# EAGLE library part ICE40HX4K-BG121 (library MotionDetectorCamera)
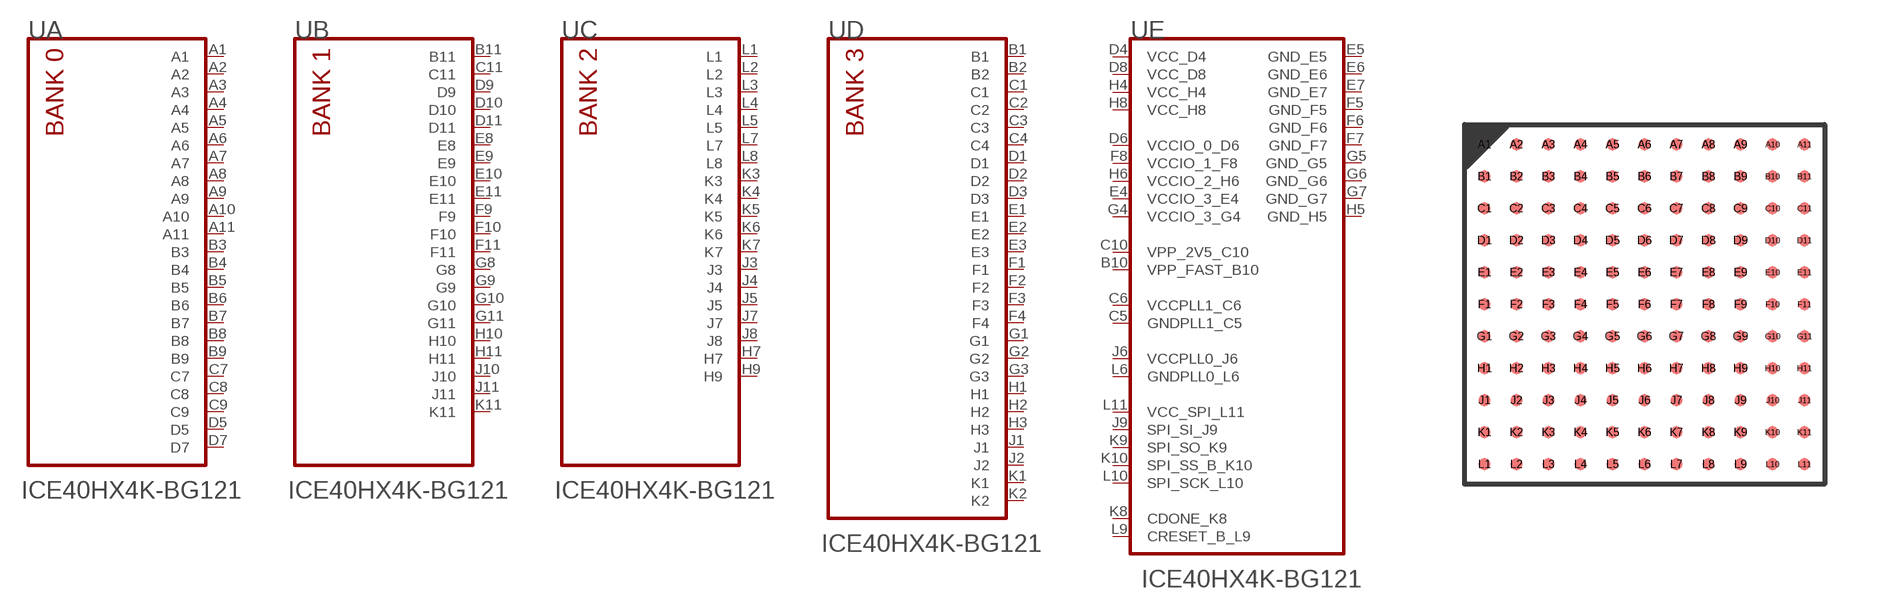
[diagram p4: symbol with the pads of ICE40HX4K-BG121; footprint ICE40HX4K-BG121]

Designator prefix U; gates A=ICE40HX4K-BG121-A B=ICE40HX4K-BG121-B C=ICE40HX4K-BG121-C D=ICE40HX4K-BG121-D E=ICE40HX4K-BG121-E

## ICE40HX4K-BG121 (MFG: Lattice; PN: ICE40HX4K-BG121)  [ICE40HX4K-BG121]
A1  A:A1
A2  A:A2
A3  A:A3
A4  A:A4
A5  A:A5
A6  A:A6
A7  A:A7
A8  A:A8
A9  A:A9
A10  A:A10
A11  A:A11
B1  D:B1
B2  D:B2
B3  A:B3
B4  A:B4
B5  A:B5
B6  A:B6
B7  A:B7
B8  A:B8
B9  A:B9
B10  E:VPP_FAST_B10
B11  B:B11
C1  D:C1
C2  D:C2
C3  D:C3
C4  D:C4
C5  E:GNDPLL1_C5
C6  E:VCCPLL1_C6
C7  A:C7
C8  A:C8
C9  A:C9
C10  E:VPP_2V5_C10
C11  B:C11
D1  D:D1
D2  D:D2
D3  D:D3
D4  E:VCC_D4
D5  A:D5
D6  E:VCCIO_0_D6
D7  A:D7
D8  E:VCC_D8
D9  B:D9
D10  B:D10
D11  B:D11
E1  D:E1
E2  D:E2
E3  D:E3
E4  E:VCCIO_3_E4
E5  E:GND_E5
E6  E:GND_E6
E7  E:GND_E7
E8  B:E8
E9  B:E9
E10  B:E10
E11  B:E11
F1  D:F1
F2  D:F2
F3  D:F3
F4  D:F4
F5  E:GND_F5
F6  E:GND_F6
F7  E:GND_F7
F8  E:VCCIO_1_F8
F9  B:F9
F10  B:F10
F11  B:F11
G1  D:G1
G2  D:G2
G3  D:G3
G4  E:VCCIO_3_G4
G5  E:GND_G5
G6  E:GND_G6
G7  E:GND_G7
G8  B:G8
G9  B:G9
G10  B:G10
G11  B:G11
H1  D:H1
H2  D:H2
H3  D:H3
H4  E:VCC_H4
H5  E:GND_H5
H6  E:VCCIO_2_H6
H7  C:H7
H8  E:VCC_H8
H9  C:H9
H10  B:H10
H11  B:H11
J1  D:J1
J2  D:J2
J3  C:J3
J4  C:J4
J5  C:J5
J6  E:VCCPLL0_J6
J7  C:J7
J8  C:J8
J9  E:SPI_SI_J9
J10  B:J10
J11  B:J11
K1  D:K1
K2  D:K2
K3  C:K3
K4  C:K4
K5  C:K5
K6  C:K6
K7  C:K7
K8  E:CDONE_K8
K9  E:SPI_SO_K9
K10  E:SPI_SS_B_K10
K11  B:K11
L1  C:L1
L2  C:L2
L3  C:L3
L4  C:L4
L5  C:L5
L6  E:GNDPLL0_L6
L7  C:L7
L8  C:L8
L9  E:CRESET_B_L9
L10  E:SPI_SCK_L10
L11  E:VCC_SPI_L11

## Footprint ICE40HX4K-BG121 (pad centres in mm)
121-BGA, collapsing, 0.80 mm pitch, 9.00 X 9.00 X 1.00 mm body 121-pin collapsing BGA package with 0.80 mm col pitch and 0.80 mm row pitch with body size 9.00 X 9.00 X 1.00 mm
smd 0.3 x 0.3: A1 -4,4; A2 -3.2,4; A3 -2.4,4; A4 -1.6,4; A5 -0.8,4; A6 0,4; A7 0.8,4; A8 1.6,4; A9 2.4,4; A10 3.2,4; A11 4,4; B1 -4,3.2; B2 -3.2,3.2; B3 -2.4,3.2; B4 -1.6,3.2; B5 -0.8,3.2; B6 0,3.2; B7 0.8,3.2; B8 1.6,3.2; B9 2.4,3.2; B10 3.2,3.2; B11 4,3.2; C1 -4,2.4; C2 -3.2,2.4; C3 -2.4,2.4; C4 -1.6,2.4; C5 -0.8,2.4; C6 0,2.4; C7 0.8,2.4; C8 1.6,2.4; C9 2.4,2.4; C10 3.2,2.4; C11 4,2.4; D1 -4,1.6; D2 -3.2,1.6; D3 -2.4,1.6; D4 -1.6,1.6; D5 -0.8,1.6; D6 0,1.6; D7 0.8,1.6; D8 1.6,1.6; D9 2.4,1.6; D10 3.2,1.6; D11 4,1.6; E1 -4,0.8; E2 -3.2,0.8; E3 -2.4,0.8; E4 -1.6,0.8; E5 -0.8,0.8; E6 0,0.8; E7 0.8,0.8; E8 1.6,0.8; E9 2.4,0.8; E10 3.2,0.8; E11 4,0.8; F1 -4,0; F2 -3.2,0; F3 -2.4,0; F4 -1.6,0; F5 -0.8,0; F6 0,0; F7 0.8,0; F8 1.6,0; F9 2.4,0; F10 3.2,0; F11 4,0; G1 -4,-0.8; G2 -3.2,-0.8; G3 -2.4,-0.8; G4 -1.6,-0.8; G5 -0.8,-0.8; G6 0,-0.8; G7 0.8,-0.8; G8 1.6,-0.8; G9 2.4,-0.8; G10 3.2,-0.8; G11 4,-0.8; H1 -4,-1.6; H2 -3.2,-1.6; H3 -2.4,-1.6; H4 -1.6,-1.6; H5 -0.8,-1.6; H6 0,-1.6; H7 0.8,-1.6; H8 1.6,-1.6; H9 2.4,-1.6; H10 3.2,-1.6; H11 4,-1.6; J1 -4,-2.4; J2 -3.2,-2.4; J3 -2.4,-2.4; J4 -1.6,-2.4; J5 -0.8,-2.4; J6 0,-2.4; J7 0.8,-2.4; J8 1.6,-2.4; J9 2.4,-2.4; J10 3.2,-2.4; J11 4,-2.4; K1 -4,-3.2; K2 -3.2,-3.2; K3 -2.4,-3.2; K4 -1.6,-3.2; K5 -0.8,-3.2; K6 0,-3.2; K7 0.8,-3.2; K8 1.6,-3.2; K9 2.4,-3.2; K10 3.2,-3.2; K11 4,-3.2; L1 -4,-4; L2 -3.2,-4; L3 -2.4,-4; L4 -1.6,-4; L5 -0.8,-4; L6 0,-4; L7 0.8,-4; L8 1.6,-4; L9 2.4,-4; L10 3.2,-4; L11 4,-4